# EAGLE library part NLSX4373 (library yapo)
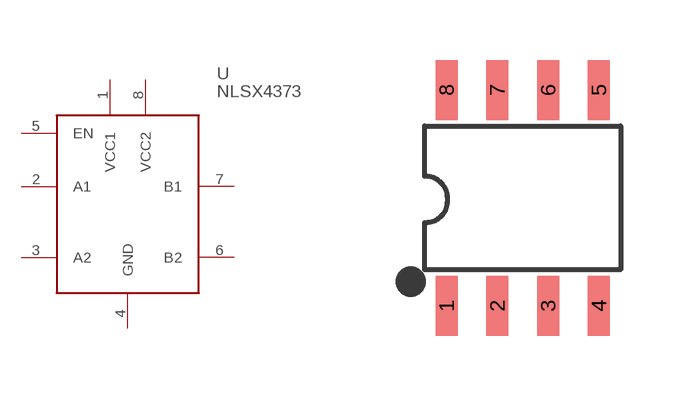
[diagram p31: symbol with the pads of SOIC8; footprint SOIC8]

Designator prefix -

## NLSX4373  [SOIC8]
1  VCC1
2  A1
3  A2
4  GND
5  EN
6  B2
7  B1
8  VCC2

## Footprint SOIC8 (pad centres in mm)
smd 0.55 x 1.5: 1 -1.905,-2.7; 2 -0.635,-2.7; 3 0.635,-2.7; 4 1.905,-2.7; 5 1.905,2.7; 6 0.635,2.7; 7 -0.635,2.7; 8 -1.905,2.7